# Altium integrated library Analog Devices Data Converters Digital-to-Analog Converters.IntLib: 2231 symbols (part 89 of 181)
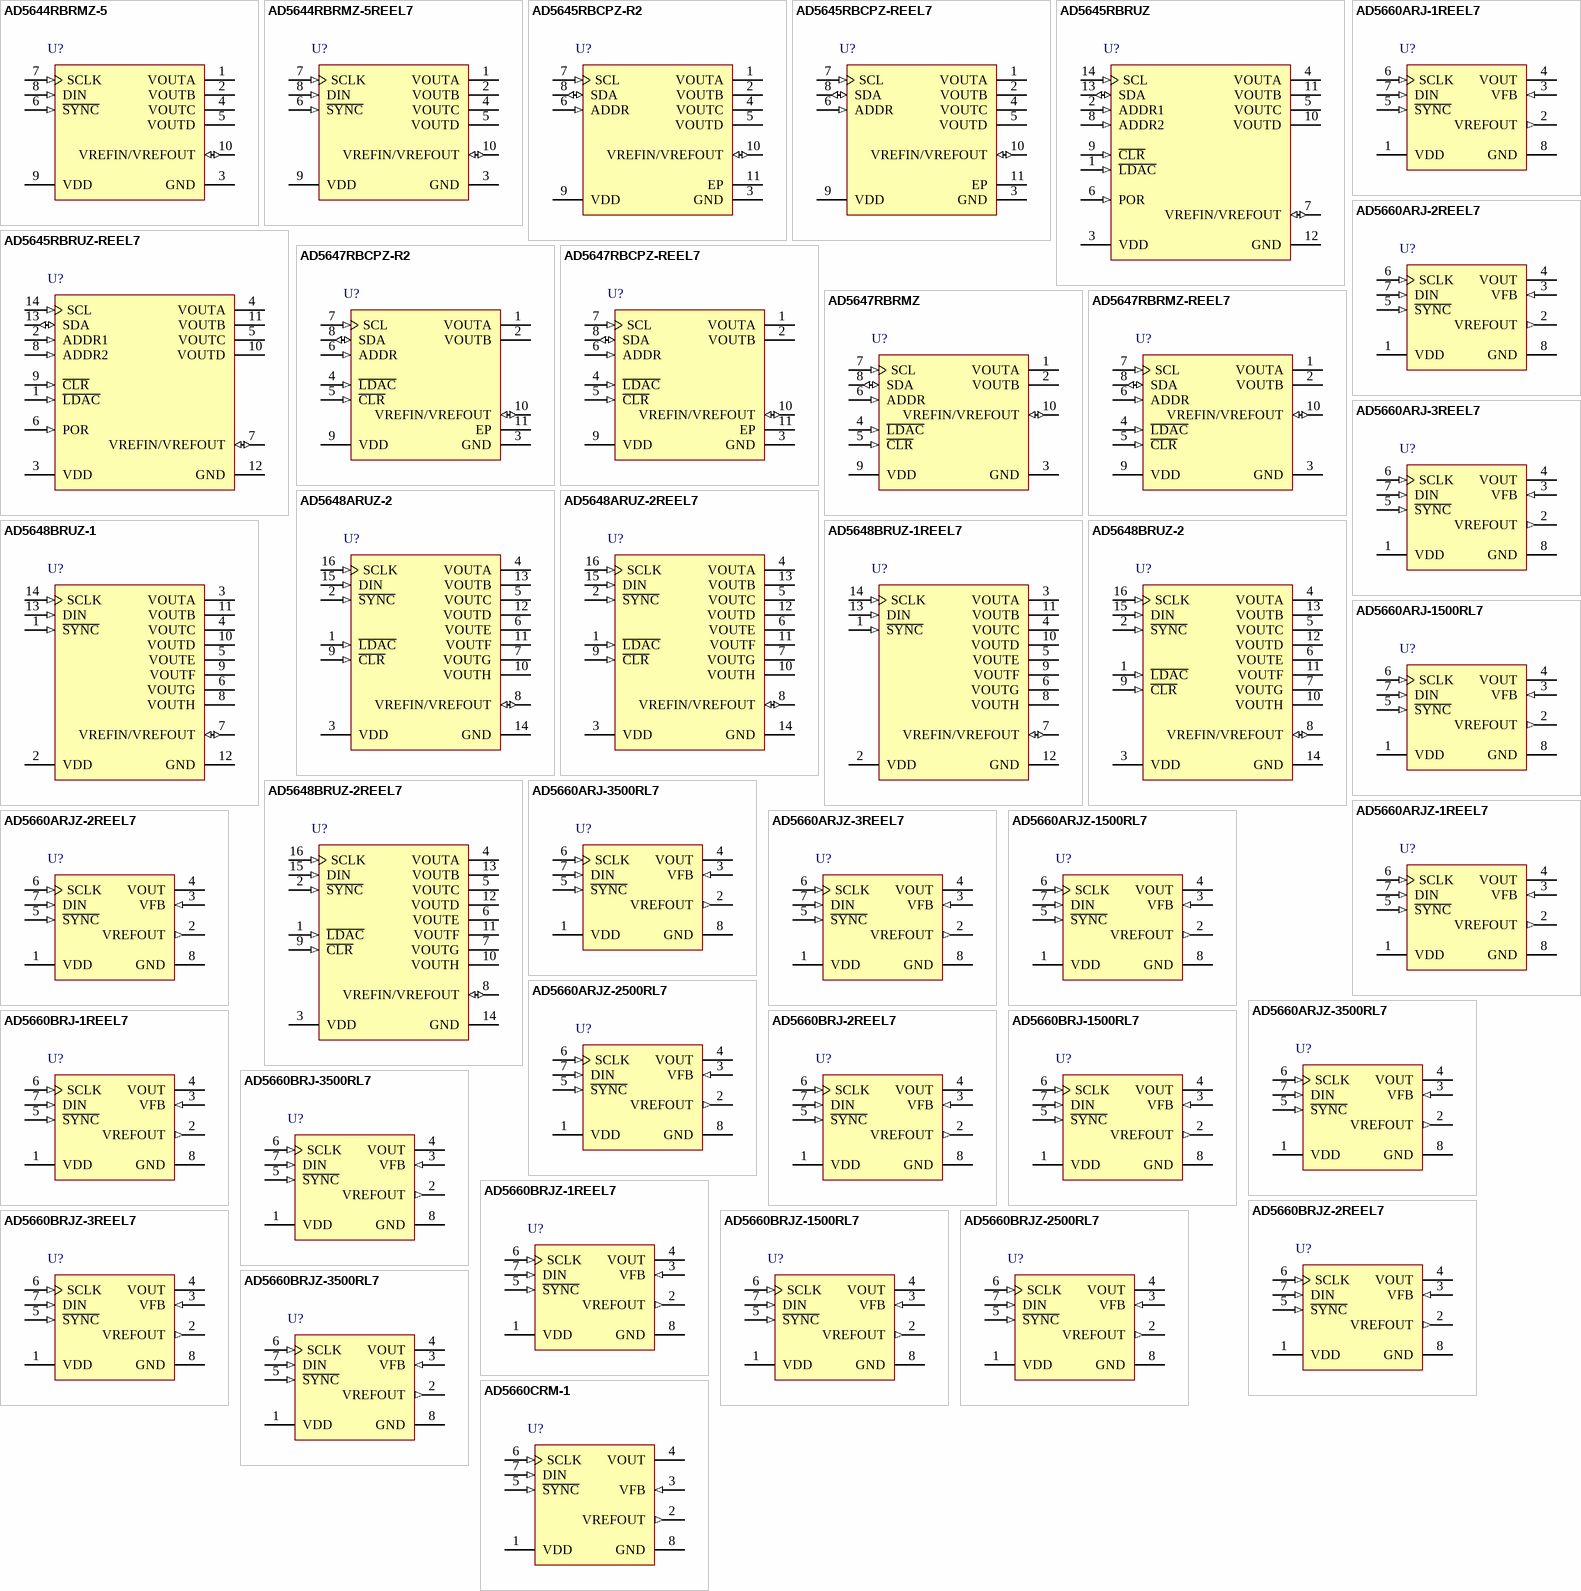
[diagram p202: symbols AD5644RBRMZ-5 to AD5660CRM-1]

## AD5660ARJZ-3500RL7
designator U?
Single 16-Bit nanoDAC with 5 ppm/degC On-Chip Reference, -40 to +105 degC, RJ-8, Pb-Free, Reel; Generic Part Number: AD5660; Manufacturer: Analog Devices; PartNumber: AD5660ARJZ-3500RL7; # DAC Outputs: 1; Max V+: 5.5V; Op Pwr Diss: 5mW; Resolution (Bits): 16; Settling Time: 8µs; Single Supply: Yes; DatasheetVersion: Rev.F; PackageVersion: 121608-A; PackageReference: RJ-8; PackageDescription: 8-Lead Thin Small Outline Transistor Package [SOT-23]; Supplier 1: Digi-Key; Supplier Part Number 1: AD5660ARJZ-3500RL7TR-ND; Supplier 2: Digi-Key; Supplier Part Number 2: AD5660ARJZ-3500RL7CT-ND; Supplier 3: Digi-Key; Supplier Part Number 3: AD5660ARJZ-3500RL7DKR-ND; Supplier 4: Farnell; Supplier Part Number 4: 2094212; Supplier 5: Newark; Supplier Part Number 5: 46M5258; Supplier 6: Newark; Supplier Part Number 6: 92T3219; Supplier 7: Mouser; Supplier Part Number 7: 584-AD5660ARJZ3500R7; Packing: Reel; RoHS: Y; Mounting Technology: Surface Mount; Code_JEDEC: MO-178-BA; ComponentLink1Description: Manufacturer URL; ComponentLink1URL: http://www.analog.com/en/index.html; ComponentLink2Description: Datasheet; ComponentLink2URL: http://www.analog.com/static/imported-files/data_sheets/AD5620_5640_5660.pdf; ComponentLink3Description: Package Specification; ComponentLink3URL: http://www.analog.com/static/imported-files/packages/PKG_PDF/SOT-23(RJ)/RJ_8.pdf; ComponentLink4Description: Product URL; ComponentLink4URL: http://www.analog.com/en/digital-to-analog-converters/da-converters/ad5660/products/product.html
footprint RJ-8_N (SOP, 8-Leads, Body 2.9x1.6mm, Pitch 0.65mm, IPC Medium Density)
footprint RJ-8_L (SOP, 8-Leads, Body 2.9x1.6mm, Pitch 0.65mm, IPC High Density)
footprint RJ-8_M (SOP, 8-Leads, Body 2.9x1.6mm, Pitch 0.65mm, IPC Low Density)
pins: 1 VDD (power) "Power Supply Input. These parts can operate from 2.7 V to 5.5 V. VDD should be decoupled to GND.", 2 VREFOUT (out) "Reference Voltage Output.", 3 VFB (in) "Feedback Connection for the Output Amplifier. VFB should be connected to VOUT for normal operation.", 4 VOUT (hiz) "Analog Output Voltage from DAC. The output amplifier has rail-to-rail operation.", 5 ~{SYNC} (in) "Level-Triggered Control Input (Active Low). This is the frame synchronization signal for the input data. When S\Y\N\C\ goes low, it enables the input shift register and data is transferred in on the falling edges of the (See Datasheet)", 6 SCLK (in) "Serial Clock Input. Data is clocked into the input shift register on the falling edge of the serial clock input. Data can be transferred at rates up to 30 MHz.", 7 DIN (in) "Serial Data Input. The AD5660 has a 24-bit shift register, Data is clocked into the register on the falling edge of the serial clock input.", 8 GND (power) "Ground Reference Point for all Circuitry on the Part."

## AD5660BRJ-1REEL7
designator U?
Single 16-Bit nanoDAC with 5 ppm/degC On-Chip Reference, -40 to +105 degC, RJ-8, Reel; Generic Part Number: AD5660; Manufacturer: Analog Devices; PartNumber: AD5660BRJ-1REEL7; # DAC Outputs: 1; Max V+: 5.5V; Op Pwr Diss: 5mW; Resolution (Bits): 16; Settling Time: 8µs; Single Supply: Yes; DatasheetVersion: Rev.F; PackageVersion: 121608-A; PackageReference: RJ-8; PackageDescription: 8-Lead Thin Small Outline Transistor Package [SOT-23]; Supplier 1: Digi-Key; Supplier Part Number 1: AD5660BRJ-1REEL7TR-ND; Supplier 2: Digi-Key; Supplier Part Number 2: AD5660BRJ-1REEL7CT-ND; Supplier 3: Digi-Key; Supplier Part Number 3: AD5660BRJ-1REEL7DKR-ND; Supplier 4: Mouser; Supplier Part Number 4: 584-AD5660BRJ-1R7; Packing: Reel; RoHS: N; Mounting Technology: Surface Mount; Code_JEDEC: MO-178-BA; ComponentLink1Description: Manufacturer URL; ComponentLink1URL: http://www.analog.com/en/index.html; ComponentLink2Description: Datasheet; ComponentLink2URL: http://www.analog.com/static/imported-files/data_sheets/AD5620_5640_5660.pdf; ComponentLink3Description: Package Specification; ComponentLink3URL: http://www.analog.com/static/imported-files/packages/PKG_PDF/SOT-23(RJ)/RJ_8.pdf; ComponentLink4Description: Product URL; ComponentLink4URL: http://www.analog.com/en/digital-to-analog-converters/da-converters/ad5660/products/product.html
footprint RJ-8_N (SOP, 8-Leads, Body 2.9x1.6mm, Pitch 0.65mm, IPC Medium Density)
footprint RJ-8_L (SOP, 8-Leads, Body 2.9x1.6mm, Pitch 0.65mm, IPC High Density)
footprint RJ-8_M (SOP, 8-Leads, Body 2.9x1.6mm, Pitch 0.65mm, IPC Low Density)
pins: 1 VDD (power) "Power Supply Input. These parts can operate from 2.7 V to 5.5 V. VDD should be decoupled to GND.", 2 VREFOUT (out) "Reference Voltage Output.", 3 VFB (in) "Feedback Connection for the Output Amplifier. VFB should be connected to VOUT for normal operation.", 4 VOUT (hiz) "Analog Output Voltage from DAC. The output amplifier has rail-to-rail operation.", 5 ~{SYNC} (in) "Level-Triggered Control Input (Active Low). This is the frame synchronization signal for the input data. When S\Y\N\C\ goes low, it enables the input shift register and data is transferred in on the falling edges of the (See Datasheet)", 6 SCLK (in) "Serial Clock Input. Data is clocked into the input shift register on the falling edge of the serial clock input. Data can be transferred at rates up to 30 MHz.", 7 DIN (in) "Serial Data Input. The AD5660 has a 24-bit shift register, Data is clocked into the register on the falling edge of the serial clock input.", 8 GND (power) "Ground Reference Point for all Circuitry on the Part."

## AD5660BRJ-2REEL7
designator U?
Single 16-Bit nanoDAC with 5 ppm/degC On-Chip Reference, -40 to +105 degC, RJ-8, Reel; Generic Part Number: AD5660; Manufacturer: Analog Devices; PartNumber: AD5660BRJ-2REEL7; # DAC Outputs: 1; Max V+: 5.5V; Op Pwr Diss: 5mW; Resolution (Bits): 16; Settling Time: 8µs; Single Supply: Yes; DatasheetVersion: Rev.F; PackageVersion: 121608-A; PackageReference: RJ-8; PackageDescription: 8-Lead Thin Small Outline Transistor Package [SOT-23]; Supplier 1: Digi-Key; Supplier Part Number 1: AD5660BRJ-2REEL7-ND; Supplier 2: Mouser; Supplier Part Number 2: N/A; Packing: Reel; RoHS: N; Mounting Technology: Surface Mount; Code_JEDEC: MO-178-BA; ComponentLink1Description: Manufacturer URL; ComponentLink1URL: http://www.analog.com/en/index.html; ComponentLink2Description: Datasheet; ComponentLink2URL: http://www.analog.com/static/imported-files/data_sheets/AD5620_5640_5660.pdf; ComponentLink3Description: Package Specification; ComponentLink3URL: http://www.analog.com/static/imported-files/packages/PKG_PDF/SOT-23(RJ)/RJ_8.pdf; ComponentLink4Description: Product URL; ComponentLink4URL: http://www.analog.com/en/digital-to-analog-converters/da-converters/ad5660/products/product.html
footprint RJ-8_N (SOP, 8-Leads, Body 2.9x1.6mm, Pitch 0.65mm, IPC Medium Density)
footprint RJ-8_L (SOP, 8-Leads, Body 2.9x1.6mm, Pitch 0.65mm, IPC High Density)
footprint RJ-8_M (SOP, 8-Leads, Body 2.9x1.6mm, Pitch 0.65mm, IPC Low Density)
pins: 1 VDD (power) "Power Supply Input. These parts can operate from 2.7 V to 5.5 V. VDD should be decoupled to GND.", 2 VREFOUT (out) "Reference Voltage Output.", 3 VFB (in) "Feedback Connection for the Output Amplifier. VFB should be connected to VOUT for normal operation.", 4 VOUT (hiz) "Analog Output Voltage from DAC. The output amplifier has rail-to-rail operation.", 5 ~{SYNC} (in) "Level-Triggered Control Input (Active Low). This is the frame synchronization signal for the input data. When S\Y\N\C\ goes low, it enables the input shift register and data is transferred in on the falling edges of the (See Datasheet)", 6 SCLK (in) "Serial Clock Input. Data is clocked into the input shift register on the falling edge of the serial clock input. Data can be transferred at rates up to 30 MHz.", 7 DIN (in) "Serial Data Input. The AD5660 has a 24-bit shift register, Data is clocked into the register on the falling edge of the serial clock input.", 8 GND (power) "Ground Reference Point for all Circuitry on the Part."

## AD5660BRJ-1500RL7
designator U?
Single 16-Bit nanoDAC with 5 ppm/degC On-Chip Reference, -40 to +105 degC, RJ-8, Reel; Generic Part Number: AD5660; Manufacturer: Analog Devices; PartNumber: AD5660BRJ-1500RL7; # DAC Outputs: 1; Max V+: 5.5V; Op Pwr Diss: 5mW; Resolution (Bits): 16; Settling Time: 8µs; Single Supply: Yes; DatasheetVersion: Rev.F; PackageVersion: 121608-A; PackageReference: RJ-8; PackageDescription: 8-Lead Thin Small Outline Transistor Package [SOT-23]; Supplier 1: Digi-Key; Supplier Part Number 1: AD5660BRJ-1500RL7TR-ND; Supplier 2: Digi-Key; Supplier Part Number 2: AD5660BRJ-1500RL7CT-ND; Supplier 3: Digi-Key; Supplier Part Number 3: AD5660BRJ-1500RL7DKR-ND; Supplier 4: Mouser; Supplier Part Number 4: 584-AD5660BRJ-1500R7; Packing: Reel; RoHS: N; Mounting Technology: Surface Mount; Code_JEDEC: MO-178-BA; ComponentLink1Description: Manufacturer URL; ComponentLink1URL: http://www.analog.com/en/index.html; ComponentLink2Description: Datasheet; ComponentLink2URL: http://www.analog.com/static/imported-files/data_sheets/AD5620_5640_5660.pdf; ComponentLink3Description: Package Specification; ComponentLink3URL: http://www.analog.com/static/imported-files/packages/PKG_PDF/SOT-23(RJ)/RJ_8.pdf; ComponentLink4Description: Product URL; ComponentLink4URL: http://www.analog.com/en/digital-to-analog-converters/da-converters/ad5660/products/product.html
footprint RJ-8_N (SOP, 8-Leads, Body 2.9x1.6mm, Pitch 0.65mm, IPC Medium Density)
footprint RJ-8_L (SOP, 8-Leads, Body 2.9x1.6mm, Pitch 0.65mm, IPC High Density)
footprint RJ-8_M (SOP, 8-Leads, Body 2.9x1.6mm, Pitch 0.65mm, IPC Low Density)
pins: 1 VDD (power) "Power Supply Input. These parts can operate from 2.7 V to 5.5 V. VDD should be decoupled to GND.", 2 VREFOUT (out) "Reference Voltage Output.", 3 VFB (in) "Feedback Connection for the Output Amplifier. VFB should be connected to VOUT for normal operation.", 4 VOUT (hiz) "Analog Output Voltage from DAC. The output amplifier has rail-to-rail operation.", 5 ~{SYNC} (in) "Level-Triggered Control Input (Active Low). This is the frame synchronization signal for the input data. When S\Y\N\C\ goes low, it enables the input shift register and data is transferred in on the falling edges of the (See Datasheet)", 6 SCLK (in) "Serial Clock Input. Data is clocked into the input shift register on the falling edge of the serial clock input. Data can be transferred at rates up to 30 MHz.", 7 DIN (in) "Serial Data Input. The AD5660 has a 24-bit shift register, Data is clocked into the register on the falling edge of the serial clock input.", 8 GND (power) "Ground Reference Point for all Circuitry on the Part."

## AD5660BRJ-3500RL7
designator U?
Single 16-Bit nanoDAC with 5 ppm/degC On-Chip Reference, -40 to +105 degC, RJ-8, Reel; Generic Part Number: AD5660; Manufacturer: Analog Devices; PartNumber: AD5660BRJ-3500RL7; # DAC Outputs: 1; Max V+: 5.5V; Op Pwr Diss: 5mW; Resolution (Bits): 16; Settling Time: 8µs; Single Supply: Yes; DatasheetVersion: Rev.F; PackageVersion: 121608-A; PackageReference: RJ-8; PackageDescription: 8-Lead Thin Small Outline Transistor Package [SOT-23]; Supplier 1: Digi-Key; Supplier Part Number 1: AD5660BRJ-3500RL7TR-ND; Supplier 2: Digi-Key; Supplier Part Number 2: AD5660BRJ-3500RL7CT-ND; Supplier 3: Digi-Key; Supplier Part Number 3: AD5660BRJ-3500RL7DKR-ND; Supplier 4: Newark; Supplier Part Number 4: 12M8625; Supplier 5: Mouser; Supplier Part Number 5: 584-AD5660BRJ-3500R7; Packing: Reel; RoHS: N; Mounting Technology: Surface Mount; Code_JEDEC: MO-178-BA; ComponentLink1Description: Manufacturer URL; ComponentLink1URL: http://www.analog.com/en/index.html; ComponentLink2Description: Datasheet; ComponentLink2URL: http://www.analog.com/static/imported-files/data_sheets/AD5620_5640_5660.pdf; ComponentLink3Description: Package Specification; ComponentLink3URL: http://www.analog.com/static/imported-files/packages/PKG_PDF/SOT-23(RJ)/RJ_8.pdf; ComponentLink4Description: Product URL; ComponentLink4URL: http://www.analog.com/en/digital-to-analog-converters/da-converters/ad5660/products/product.html
footprint RJ-8_N (SOP, 8-Leads, Body 2.9x1.6mm, Pitch 0.65mm, IPC Medium Density)
footprint RJ-8_L (SOP, 8-Leads, Body 2.9x1.6mm, Pitch 0.65mm, IPC High Density)
footprint RJ-8_M (SOP, 8-Leads, Body 2.9x1.6mm, Pitch 0.65mm, IPC Low Density)
pins: 1 VDD (power) "Power Supply Input. These parts can operate from 2.7 V to 5.5 V. VDD should be decoupled to GND.", 2 VREFOUT (out) "Reference Voltage Output.", 3 VFB (in) "Feedback Connection for the Output Amplifier. VFB should be connected to VOUT for normal operation.", 4 VOUT (hiz) "Analog Output Voltage from DAC. The output amplifier has rail-to-rail operation.", 5 ~{SYNC} (in) "Level-Triggered Control Input (Active Low). This is the frame synchronization signal for the input data. When S\Y\N\C\ goes low, it enables the input shift register and data is transferred in on the falling edges of the (See Datasheet)", 6 SCLK (in) "Serial Clock Input. Data is clocked into the input shift register on the falling edge of the serial clock input. Data can be transferred at rates up to 30 MHz.", 7 DIN (in) "Serial Data Input. The AD5660 has a 24-bit shift register, Data is clocked into the register on the falling edge of the serial clock input.", 8 GND (power) "Ground Reference Point for all Circuitry on the Part."

## AD5660BRJZ-1REEL7
designator U?
Single 16-Bit nanoDAC with 5 ppm/degC On-Chip Reference, -40 to +105 degC, RJ-8, Pb-Free, Reel; Generic Part Number: AD5660; Manufacturer: Analog Devices; PartNumber: AD5660BRJZ-1REEL7; # DAC Outputs: 1; Max V+: 5.5V; Op Pwr Diss: 5mW; Resolution (Bits): 16; Settling Time: 8µs; Single Supply: Yes; DatasheetVersion: Rev.F; PackageVersion: 121608-A; PackageReference: RJ-8; PackageDescription: 8-Lead Thin Small Outline Transistor Package [SOT-23]; Supplier 1: Digi-Key; Supplier Part Number 1: AD5660BRJZ-1REEL7TR-ND; Supplier 2: Digi-Key; Supplier Part Number 2: AD5660BRJZ-1REEL7CT-ND; Supplier 3: Digi-Key; Supplier Part Number 3: AD5660BRJZ-1REEL7DKR-ND; Supplier 4: Mouser; Supplier Part Number 4: 584-AD5660BRJZ-1R7; Packing: Reel; RoHS: Y; Mounting Technology: Surface Mount; Code_JEDEC: MO-178-BA; ComponentLink1Description: Manufacturer URL; ComponentLink1URL: http://www.analog.com/en/index.html; ComponentLink2Description: Datasheet; ComponentLink2URL: http://www.analog.com/static/imported-files/data_sheets/AD5620_5640_5660.pdf; ComponentLink3Description: Package Specification; ComponentLink3URL: http://www.analog.com/static/imported-files/packages/PKG_PDF/SOT-23(RJ)/RJ_8.pdf; ComponentLink4Description: Product URL; ComponentLink4URL: http://www.analog.com/en/digital-to-analog-converters/da-converters/ad5660/products/product.html
footprint RJ-8_N (SOP, 8-Leads, Body 2.9x1.6mm, Pitch 0.65mm, IPC Medium Density)
footprint RJ-8_L (SOP, 8-Leads, Body 2.9x1.6mm, Pitch 0.65mm, IPC High Density)
footprint RJ-8_M (SOP, 8-Leads, Body 2.9x1.6mm, Pitch 0.65mm, IPC Low Density)
pins: 1 VDD (power) "Power Supply Input. These parts can operate from 2.7 V to 5.5 V. VDD should be decoupled to GND.", 2 VREFOUT (out) "Reference Voltage Output.", 3 VFB (in) "Feedback Connection for the Output Amplifier. VFB should be connected to VOUT for normal operation.", 4 VOUT (hiz) "Analog Output Voltage from DAC. The output amplifier has rail-to-rail operation.", 5 ~{SYNC} (in) "Level-Triggered Control Input (Active Low). This is the frame synchronization signal for the input data. When S\Y\N\C\ goes low, it enables the input shift register and data is transferred in on the falling edges of the (See Datasheet)", 6 SCLK (in) "Serial Clock Input. Data is clocked into the input shift register on the falling edge of the serial clock input. Data can be transferred at rates up to 30 MHz.", 7 DIN (in) "Serial Data Input. The AD5660 has a 24-bit shift register, Data is clocked into the register on the falling edge of the serial clock input.", 8 GND (power) "Ground Reference Point for all Circuitry on the Part."

## AD5660BRJZ-2REEL7
designator U?
Single 16-Bit nanoDAC with 5 ppm/degC On-Chip Reference, -40 to +105 degC, RJ-8, Pb-Free, Reel; Generic Part Number: AD5660; Manufacturer: Analog Devices; PartNumber: AD5660BRJZ-2REEL7; # DAC Outputs: 1; Max V+: 5.5V; Op Pwr Diss: 5mW; Resolution (Bits): 16; Settling Time: 8µs; Single Supply: Yes; DatasheetVersion: Rev.F; PackageVersion: 121608-A; PackageReference: RJ-8; PackageDescription: 8-Lead Thin Small Outline Transistor Package [SOT-23]; Supplier 1: Digi-Key; Supplier Part Number 1: AD5660BRJZ-2REEL7TR-ND; Supplier 2: Digi-Key; Supplier Part Number 2: AD5660BRJZ-2REEL7CT-ND; Supplier 3: Digi-Key; Supplier Part Number 3: AD5660BRJZ-2REEL7DKR-ND; Supplier 4: Mouser; Supplier Part Number 4: 584-AD5660BRJZ-2R7; Packing: Reel; RoHS: Y; Mounting Technology: Surface Mount; Code_JEDEC: MO-178-BA; ComponentLink1Description: Manufacturer URL; ComponentLink1URL: http://www.analog.com/en/index.html; ComponentLink2Description: Datasheet; ComponentLink2URL: http://www.analog.com/static/imported-files/data_sheets/AD5620_5640_5660.pdf; ComponentLink3Description: Package Specification; ComponentLink3URL: http://www.analog.com/static/imported-files/packages/PKG_PDF/SOT-23(RJ)/RJ_8.pdf; ComponentLink4Description: Product URL; ComponentLink4URL: http://www.analog.com/en/digital-to-analog-converters/da-converters/ad5660/products/product.html
footprint RJ-8_N (SOP, 8-Leads, Body 2.9x1.6mm, Pitch 0.65mm, IPC Medium Density)
footprint RJ-8_L (SOP, 8-Leads, Body 2.9x1.6mm, Pitch 0.65mm, IPC High Density)
footprint RJ-8_M (SOP, 8-Leads, Body 2.9x1.6mm, Pitch 0.65mm, IPC Low Density)
pins: 1 VDD (power) "Power Supply Input. These parts can operate from 2.7 V to 5.5 V. VDD should be decoupled to GND.", 2 VREFOUT (out) "Reference Voltage Output.", 3 VFB (in) "Feedback Connection for the Output Amplifier. VFB should be connected to VOUT for normal operation.", 4 VOUT (hiz) "Analog Output Voltage from DAC. The output amplifier has rail-to-rail operation.", 5 ~{SYNC} (in) "Level-Triggered Control Input (Active Low). This is the frame synchronization signal for the input data. When S\Y\N\C\ goes low, it enables the input shift register and data is transferred in on the falling edges of the (See Datasheet)", 6 SCLK (in) "Serial Clock Input. Data is clocked into the input shift register on the falling edge of the serial clock input. Data can be transferred at rates up to 30 MHz.", 7 DIN (in) "Serial Data Input. The AD5660 has a 24-bit shift register, Data is clocked into the register on the falling edge of the serial clock input.", 8 GND (power) "Ground Reference Point for all Circuitry on the Part."

## AD5660BRJZ-3REEL7
designator U?
Single 16-Bit nanoDAC with 5 ppm/degC On-Chip Reference, -40 to +105 degC, RJ-8, Pb-Free, Reel; Generic Part Number: AD5660; Manufacturer: Analog Devices; PartNumber: AD5660BRJZ-3REEL7; # DAC Outputs: 1; Max V+: 5.5V; Op Pwr Diss: 5mW; Resolution (Bits): 16; Settling Time: 8µs; Single Supply: Yes; DatasheetVersion: Rev.F; PackageVersion: 121608-A; PackageReference: RJ-8; PackageDescription: 8-Lead Thin Small Outline Transistor Package [SOT-23]; Supplier 1: Digi-Key; Supplier Part Number 1: AD5660BRJZ-3REEL7TR-ND; Supplier 2: Digi-Key; Supplier Part Number 2: AD5660BRJZ-3REEL7CT-ND; Supplier 3: Digi-Key; Supplier Part Number 3: AD5660BRJZ-3REEL7DKR-ND; Supplier 4: Mouser; Supplier Part Number 4: 584-AD5660BRJZ-3R7; Packing: Reel; RoHS: Y; Mounting Technology: Surface Mount; Code_JEDEC: MO-178-BA; ComponentLink1Description: Manufacturer URL; ComponentLink1URL: http://www.analog.com/en/index.html; ComponentLink2Description: Datasheet; ComponentLink2URL: http://www.analog.com/static/imported-files/data_sheets/AD5620_5640_5660.pdf; ComponentLink3Description: Package Specification; ComponentLink3URL: http://www.analog.com/static/imported-files/packages/PKG_PDF/SOT-23(RJ)/RJ_8.pdf; ComponentLink4Description: Product URL; ComponentLink4URL: http://www.analog.com/en/digital-to-analog-converters/da-converters/ad5660/products/product.html
footprint RJ-8_N (SOP, 8-Leads, Body 2.9x1.6mm, Pitch 0.65mm, IPC Medium Density)
footprint RJ-8_L (SOP, 8-Leads, Body 2.9x1.6mm, Pitch 0.65mm, IPC High Density)
footprint RJ-8_M (SOP, 8-Leads, Body 2.9x1.6mm, Pitch 0.65mm, IPC Low Density)
pins: 1 VDD (power) "Power Supply Input. These parts can operate from 2.7 V to 5.5 V. VDD should be decoupled to GND.", 2 VREFOUT (out) "Reference Voltage Output.", 3 VFB (in) "Feedback Connection for the Output Amplifier. VFB should be connected to VOUT for normal operation.", 4 VOUT (hiz) "Analog Output Voltage from DAC. The output amplifier has rail-to-rail operation.", 5 ~{SYNC} (in) "Level-Triggered Control Input (Active Low). This is the frame synchronization signal for the input data. When S\Y\N\C\ goes low, it enables the input shift register and data is transferred in on the falling edges of the (See Datasheet)", 6 SCLK (in) "Serial Clock Input. Data is clocked into the input shift register on the falling edge of the serial clock input. Data can be transferred at rates up to 30 MHz.", 7 DIN (in) "Serial Data Input. The AD5660 has a 24-bit shift register, Data is clocked into the register on the falling edge of the serial clock input.", 8 GND (power) "Ground Reference Point for all Circuitry on the Part."

## AD5660BRJZ-1500RL7
designator U?
Single 16-Bit nanoDAC with 5 ppm/degC On-Chip Reference, -40 to +105 degC, RJ-8, Pb-Free, Reel; Generic Part Number: AD5660; Manufacturer: Analog Devices; PartNumber: AD5660BRJZ-1500RL7; # DAC Outputs: 1; Max V+: 5.5V; Op Pwr Diss: 5mW; Resolution (Bits): 16; Settling Time: 8µs; Single Supply: Yes; DatasheetVersion: Rev.F; PackageVersion: 121608-A; PackageReference: RJ-8; PackageDescription: 8-Lead Thin Small Outline Transistor Package [SOT-23]; Supplier 1: Digi-Key; Supplier Part Number 1: AD5660BRJZ-1500RL7TR-ND; Supplier 2: Digi-Key; Supplier Part Number 2: AD5660BRJZ-1500RL7CT-ND; Supplier 3: Digi-Key; Supplier Part Number 3: AD5660BRJZ-1500RL7DKR-ND; Supplier 4: Farnell; Supplier Part Number 4: 2094205; Supplier 5: Newark; Supplier Part Number 5: 12M8627; Supplier 6: Mouser; Supplier Part Number 6: 584-AD5660BRJZ1500R7; Packing: Reel; RoHS: Y; Mounting Technology: Surface Mount; Code_JEDEC: MO-178-BA; ComponentLink1Description: Manufacturer URL; ComponentLink1URL: http://www.analog.com/en/index.html; ComponentLink2Description: Datasheet; ComponentLink2URL: http://www.analog.com/static/imported-files/data_sheets/AD5620_5640_5660.pdf; ComponentLink3Description: Package Specification; ComponentLink3URL: http://www.analog.com/static/imported-files/packages/PKG_PDF/SOT-23(RJ)/RJ_8.pdf; ComponentLink4Description: Product URL; ComponentLink4URL: http://www.analog.com/en/digital-to-analog-converters/da-converters/ad5660/products/product.html
footprint RJ-8_N (SOP, 8-Leads, Body 2.9x1.6mm, Pitch 0.65mm, IPC Medium Density)
footprint RJ-8_L (SOP, 8-Leads, Body 2.9x1.6mm, Pitch 0.65mm, IPC High Density)
footprint RJ-8_M (SOP, 8-Leads, Body 2.9x1.6mm, Pitch 0.65mm, IPC Low Density)
pins: 1 VDD (power) "Power Supply Input. These parts can operate from 2.7 V to 5.5 V. VDD should be decoupled to GND.", 2 VREFOUT (out) "Reference Voltage Output.", 3 VFB (in) "Feedback Connection for the Output Amplifier. VFB should be connected to VOUT for normal operation.", 4 VOUT (hiz) "Analog Output Voltage from DAC. The output amplifier has rail-to-rail operation.", 5 ~{SYNC} (in) "Level-Triggered Control Input (Active Low). This is the frame synchronization signal for the input data. When S\Y\N\C\ goes low, it enables the input shift register and data is transferred in on the falling edges of the (See Datasheet)", 6 SCLK (in) "Serial Clock Input. Data is clocked into the input shift register on the falling edge of the serial clock input. Data can be transferred at rates up to 30 MHz.", 7 DIN (in) "Serial Data Input. The AD5660 has a 24-bit shift register, Data is clocked into the register on the falling edge of the serial clock input.", 8 GND (power) "Ground Reference Point for all Circuitry on the Part."

## AD5660BRJZ-2500RL7
designator U?
Single 16-Bit nanoDAC with 5 ppm/degC On-Chip Reference, -40 to +105 degC, RJ-8, Pb-Free, Reel; Generic Part Number: AD5660; Manufacturer: Analog Devices; PartNumber: AD5660BRJZ-2500RL7; # DAC Outputs: 1; Max V+: 5.5V; Op Pwr Diss: 5mW; Resolution (Bits): 16; Settling Time: 8µs; Single Supply: Yes; DatasheetVersion: Rev.F; PackageVersion: 121608-A; PackageReference: RJ-8; PackageDescription: 8-Lead Thin Small Outline Transistor Package [SOT-23]; Supplier 1: Digi-Key; Supplier Part Number 1: AD5660BRJZ-2500RL7TR-ND; Supplier 2: Digi-Key; Supplier Part Number 2: AD5660BRJZ-2500RL7CT-ND; Supplier 3: Digi-Key; Supplier Part Number 3: AD5660BRJZ-2500RL7DKR-ND; Supplier 4: Farnell; Supplier Part Number 4: 2094209; Supplier 5: Newark; Supplier Part Number 5: 92T3220; Supplier 6: Newark; Supplier Part Number 6: 12M8629; Supplier 7: Mouser; Supplier Part Number 7: 584-AD5660BRJZ2500R7; Packing: Reel; RoHS: Y; Mounting Technology: Surface Mount; Code_JEDEC: MO-178-BA; ComponentLink1Description: Manufacturer URL; ComponentLink1URL: http://www.analog.com/en/index.html; ComponentLink2Description: Datasheet; ComponentLink2URL: http://www.analog.com/static/imported-files/data_sheets/AD5620_5640_5660.pdf; ComponentLink3Description: Package Specification; ComponentLink3URL: http://www.analog.com/static/imported-files/packages/PKG_PDF/SOT-23(RJ)/RJ_8.pdf; ComponentLink4Description: Product URL; ComponentLink4URL: http://www.analog.com/en/digital-to-analog-converters/da-converters/ad5660/products/product.html
footprint RJ-8_N (SOP, 8-Leads, Body 2.9x1.6mm, Pitch 0.65mm, IPC Medium Density)
footprint RJ-8_L (SOP, 8-Leads, Body 2.9x1.6mm, Pitch 0.65mm, IPC High Density)
footprint RJ-8_M (SOP, 8-Leads, Body 2.9x1.6mm, Pitch 0.65mm, IPC Low Density)
pins: 1 VDD (power) "Power Supply Input. These parts can operate from 2.7 V to 5.5 V. VDD should be decoupled to GND.", 2 VREFOUT (out) "Reference Voltage Output.", 3 VFB (in) "Feedback Connection for the Output Amplifier. VFB should be connected to VOUT for normal operation.", 4 VOUT (hiz) "Analog Output Voltage from DAC. The output amplifier has rail-to-rail operation.", 5 ~{SYNC} (in) "Level-Triggered Control Input (Active Low). This is the frame synchronization signal for the input data. When S\Y\N\C\ goes low, it enables the input shift register and data is transferred in on the falling edges of the (See Datasheet)", 6 SCLK (in) "Serial Clock Input. Data is clocked into the input shift register on the falling edge of the serial clock input. Data can be transferred at rates up to 30 MHz.", 7 DIN (in) "Serial Data Input. The AD5660 has a 24-bit shift register, Data is clocked into the register on the falling edge of the serial clock input.", 8 GND (power) "Ground Reference Point for all Circuitry on the Part."

## AD5660BRJZ-3500RL7
designator U?
Single 16-Bit nanoDAC with 5 ppm/degC On-Chip Reference, -40 to +105 degC, RJ-8, Pb-Free, Reel; Generic Part Number: AD5660; Manufacturer: Analog Devices; PartNumber: AD5660BRJZ-3500RL7; # DAC Outputs: 1; Max V+: 5.5V; Op Pwr Diss: 5mW; Resolution (Bits): 16; Settling Time: 8µs; Single Supply: Yes; DatasheetVersion: Rev.F; PackageVersion: 121608-A; PackageReference: RJ-8; PackageDescription: 8-Lead Thin Small Outline Transistor Package [SOT-23]; Supplier 1: Digi-Key; Supplier Part Number 1: AD5660BRJZ-3500RL7TR-ND; Supplier 2: Digi-Key; Supplier Part Number 2: AD5660BRJZ-3500RL7CT-ND; Supplier 3: Digi-Key; Supplier Part Number 3: AD5660BRJZ-3500RL7DKR-ND; Supplier 4: Farnell; Supplier Part Number 4: 2094210; Supplier 5: Newark; Supplier Part Number 5: 34M5006; Supplier 6: Newark; Supplier Part Number 6: 92T3221; Supplier 7: Mouser; Supplier Part Number 7: 584-AD5660BRJZ3500R7; Packing: Reel; RoHS: Y; Mounting Technology: Surface Mount; Code_JEDEC: MO-178-BA; ComponentLink1Description: Manufacturer URL; ComponentLink1URL: http://www.analog.com/en/index.html; ComponentLink2Description: Datasheet; ComponentLink2URL: http://www.analog.com/static/imported-files/data_sheets/AD5620_5640_5660.pdf; ComponentLink3Description: Package Specification; ComponentLink3URL: http://www.analog.com/static/imported-files/packages/PKG_PDF/SOT-23(RJ)/RJ_8.pdf; ComponentLink4Description: Product URL; ComponentLink4URL: http://www.analog.com/en/digital-to-analog-converters/da-converters/ad5660/products/product.html
footprint RJ-8_N (SOP, 8-Leads, Body 2.9x1.6mm, Pitch 0.65mm, IPC Medium Density)
footprint RJ-8_L (SOP, 8-Leads, Body 2.9x1.6mm, Pitch 0.65mm, IPC High Density)
footprint RJ-8_M (SOP, 8-Leads, Body 2.9x1.6mm, Pitch 0.65mm, IPC Low Density)
pins: 1 VDD (power) "Power Supply Input. These parts can operate from 2.7 V to 5.5 V. VDD should be decoupled to GND.", 2 VREFOUT (out) "Reference Voltage Output.", 3 VFB (in) "Feedback Connection for the Output Amplifier. VFB should be connected to VOUT for normal operation.", 4 VOUT (hiz) "Analog Output Voltage from DAC. The output amplifier has rail-to-rail operation.", 5 ~{SYNC} (in) "Level-Triggered Control Input (Active Low). This is the frame synchronization signal for the input data. When S\Y\N\C\ goes low, it enables the input shift register and data is transferred in on the falling edges of the (See Datasheet)", 6 SCLK (in) "Serial Clock Input. Data is clocked into the input shift register on the falling edge of the serial clock input. Data can be transferred at rates up to 30 MHz.", 7 DIN (in) "Serial Data Input. The AD5660 has a 24-bit shift register, Data is clocked into the register on the falling edge of the serial clock input.", 8 GND (power) "Ground Reference Point for all Circuitry on the Part."

## AD5660CRM-1
designator U?
Single 16-Bit nanoDAC with 5 ppm/degC On-Chip Reference, -40 to +105 degC, RM-8, Tube; Generic Part Number: AD5660; Manufacturer: Analog Devices; PartNumber: AD5660CRM-1; # DAC Outputs: 1; Max V+: 5.5V; Op Pwr Diss: 5mW; Resolution (Bits): 16; Settling Time: 8µs; Single Supply: Yes; DatasheetVersion: Rev.F; PackageVersion: Aug-2005; PackageReference: RM-8; PackageDescription: 8-Lead Mini Small Outline Package [MSOP]; Supplier 1: Digi-Key; Supplier Part Number 1: AD5660CRM-1-ND; Supplier 2: Mouser; Supplier Part Number 2: 584-AD5660CRM-1; Packing: Tube; RoHS: N; Mounting Technology: Surface Mount; Code_JEDEC: MO-187-AA; ComponentLink1Description: Manufacturer URL; ComponentLink1URL: http://www.analog.com/en/index.html; ComponentLink2Description: Datasheet; ComponentLink2URL: http://www.analog.com/static/imported-files/data_sheets/AD5620_5640_5660.pdf; ComponentLink3Description: Package Specification; ComponentLink3URL: http://www.analog.com/static/imported-files/packages/PKG_PDF/MSOP%28RM%29/RM_8.pdf; ComponentLink4Description: Product URL; ComponentLink4URL: http://www.analog.com/en/digital-to-analog-converters/da-converters/ad5660/products/product.html
footprint RM-8_N (TSOP, 8-Leads, Body 3x3mm, Pitch 0.65mm, IPC Medium Density)
footprint RM-8_L (TSOP, 8-Leads, Body 3x3mm, Pitch 0.65mm, IPC High Density)
footprint RM-8_M (TSOP, 8-Leads, Body 3x3mm, Pitch 0.65mm, IPC Low Density)
pins: 1 VDD (power) "Power Supply Input. These parts can operate from 2.7 V to 5.5 V. VDD should be decoupled to GND.", 2 VREFOUT (out) "Reference Voltage Output.", 3 VFB (in) "Feedback Connection for the Output Amplifier. VFB should be connected to VOUT for normal operation.", 4 VOUT (hiz) "Analog Output Voltage from DAC. The output amplifier has rail-to-rail operation.", 5 ~{SYNC} (in) "Level-Triggered Control Input (Active Low). This is the frame synchronization signal for the input data. When S\Y\N\C\ goes low, it enables the input shift register and data is transferred in on the falling edges of the (See Datasheet)", 6 SCLK (in) "Serial Clock Input. Data is clocked into the input shift register on the falling edge of the serial clock input. Data can be transferred at rates up to 30 MHz.", 7 DIN (in) "Serial Data Input. The AD5660 has a 24-bit shift register, and the AD5620/AD5640 have a 16-bit shift register.Data is clocked into the register on the falling edge of the serial clock input.", 8 GND (power) "Ground Reference Point for all Circuitry on the Part."

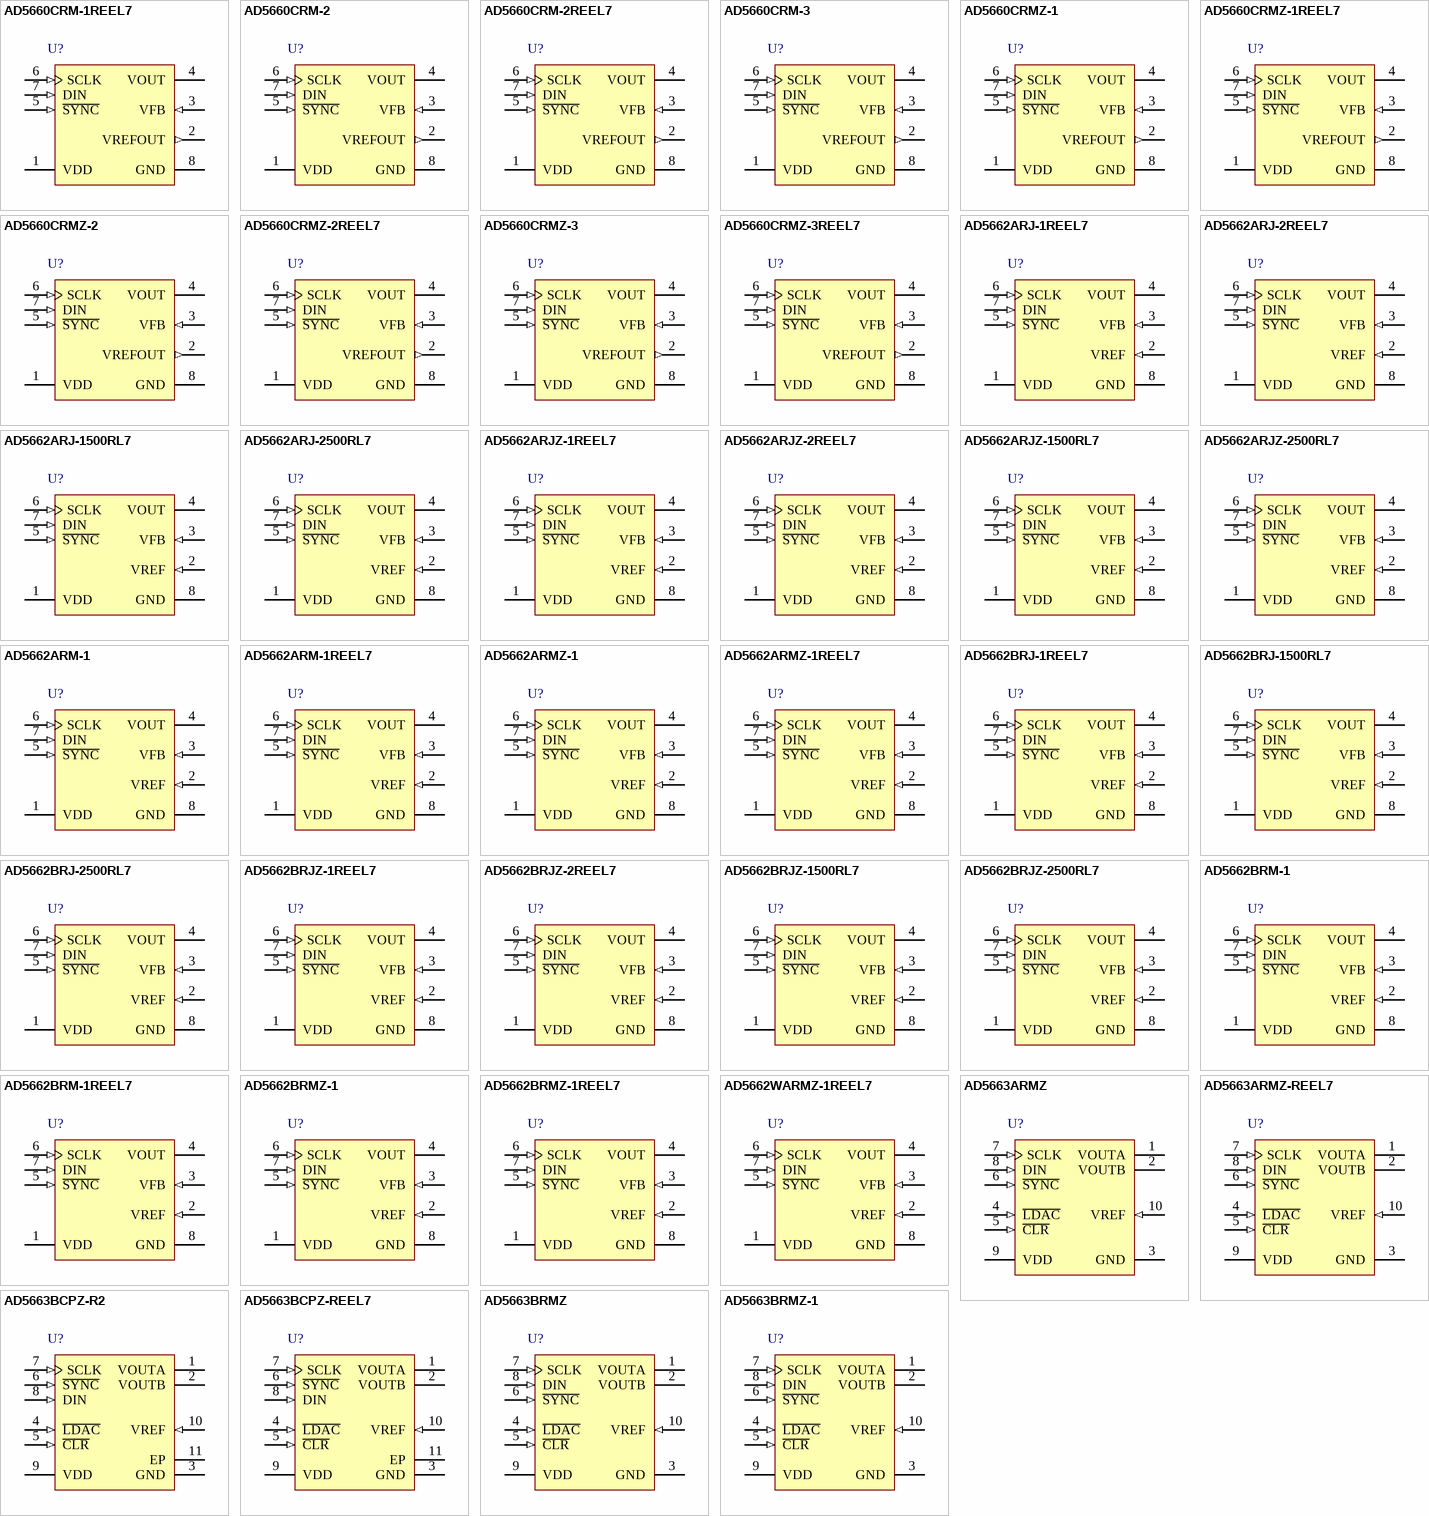
[diagram p48: symbols AD5660CRM-1REEL7 to AD5663BRMZ-1]

## AD5660CRM-1REEL7
designator U?
Single 16-Bit nanoDAC with 5 ppm/degC On-Chip Reference, -40 to +105 degC, RM-8, Reel; Generic Part Number: AD5660; Manufacturer: Analog Devices; PartNumber: AD5660CRM-1REEL7; # DAC Outputs: 1; Max V+: 5.5V; Op Pwr Diss: 5mW; Resolution (Bits): 16; Settling Time: 8µs; Single Supply: Yes; DatasheetVersion: Rev.F; PackageVersion: Aug-2005; PackageReference: RM-8; PackageDescription: 8-Lead Mini Small Outline Package [MSOP]; Supplier 1: Digi-Key; Supplier Part Number 1: AD5660CRM-1REEL7-ND; Supplier 2: Mouser; Supplier Part Number 2: 584-AD5660CRM-1R7; Packing: Reel; RoHS: N; Mounting Technology: Surface Mount; Code_JEDEC: MO-187-AA; ComponentLink1Description: Manufacturer URL; ComponentLink1URL: http://www.analog.com/en/index.html; ComponentLink2Description: Datasheet; ComponentLink2URL: http://www.analog.com/static/imported-files/data_sheets/AD5620_5640_5660.pdf; ComponentLink3Description: Package Specification; ComponentLink3URL: http://www.analog.com/static/imported-files/packages/PKG_PDF/MSOP%28RM%29/RM_8.pdf; ComponentLink4Description: Product URL; ComponentLink4URL: http://www.analog.com/en/digital-to-analog-converters/da-converters/ad5660/products/product.html
footprint RM-8_N (TSOP, 8-Leads, Body 3x3mm, Pitch 0.65mm, IPC Medium Density)
footprint RM-8_L (TSOP, 8-Leads, Body 3x3mm, Pitch 0.65mm, IPC High Density)
footprint RM-8_M (TSOP, 8-Leads, Body 3x3mm, Pitch 0.65mm, IPC Low Density)
pins: 1 VDD (power) "Power Supply Input. These parts can operate from 2.7 V to 5.5 V. VDD should be decoupled to GND.", 2 VREFOUT (out) "Reference Voltage Output.", 3 VFB (in) "Feedback Connection for the Output Amplifier. VFB should be connected to VOUT for normal operation.", 4 VOUT (hiz) "Analog Output Voltage from DAC. The output amplifier has rail-to-rail operation.", 5 ~{SYNC} (in) "Level-Triggered Control Input (Active Low). This is the frame synchronization signal for the input data. When S\Y\N\C\ goes low, it enables the input shift register and data is transferred in on the falling edges of the (See Datasheet)", 6 SCLK (in) "Serial Clock Input. Data is clocked into the input shift register on the falling edge of the serial clock input. Data can be transferred at rates up to 30 MHz.", 7 DIN (in) "Serial Data Input. The AD5660 has a 24-bit shift register, and the AD5620/AD5640 have a 16-bit shift register.Data is clocked into the register on the falling edge of the serial clock input.", 8 GND (power) "Ground Reference Point for all Circuitry on the Part."

## AD5660CRM-2
designator U?
Single 16-Bit nanoDAC with 5 ppm/degC On-Chip Reference, -40 to +105 degC, RM-8, Tube; Generic Part Number: AD5660; Manufacturer: Analog Devices; PartNumber: AD5660CRM-2; # DAC Outputs: 1; Max V+: 5.5V; Op Pwr Diss: 5mW; Resolution (Bits): 16; Settling Time: 8µs; Single Supply: Yes; DatasheetVersion: Rev.F; PackageVersion: Aug-2005; PackageReference: RM-8; PackageDescription: 8-Lead Mini Small Outline Package [MSOP]; Supplier 1: Digi-Key; Supplier Part Number 1: AD5660CRM-2-ND; Supplier 2: Mouser; Supplier Part Number 2: 584-AD5660CRM-2; Packing: Tube; RoHS: N; Mounting Technology: Surface Mount; Code_JEDEC: MO-187-AA; ComponentLink1Description: Manufacturer URL; ComponentLink1URL: http://www.analog.com/en/index.html; ComponentLink2Description: Datasheet; ComponentLink2URL: http://www.analog.com/static/imported-files/data_sheets/AD5620_5640_5660.pdf; ComponentLink3Description: Package Specification; ComponentLink3URL: http://www.analog.com/static/imported-files/packages/PKG_PDF/MSOP%28RM%29/RM_8.pdf; ComponentLink4Description: Product URL; ComponentLink4URL: http://www.analog.com/en/digital-to-analog-converters/da-converters/ad5660/products/product.html
footprint RM-8_N (TSOP, 8-Leads, Body 3x3mm, Pitch 0.65mm, IPC Medium Density)
footprint RM-8_L (TSOP, 8-Leads, Body 3x3mm, Pitch 0.65mm, IPC High Density)
footprint RM-8_M (TSOP, 8-Leads, Body 3x3mm, Pitch 0.65mm, IPC Low Density)
pins: 1 VDD (power) "Power Supply Input. These parts can operate from 2.7 V to 5.5 V. VDD should be decoupled to GND.", 2 VREFOUT (out) "Reference Voltage Output.", 3 VFB (in) "Feedback Connection for the Output Amplifier. VFB should be connected to VOUT for normal operation.", 4 VOUT (hiz) "Analog Output Voltage from DAC. The output amplifier has rail-to-rail operation.", 5 ~{SYNC} (in) "Level-Triggered Control Input (Active Low). This is the frame synchronization signal for the input data. When S\Y\N\C\ goes low, it enables the input shift register and data is transferred in on the falling edges of the (See Datasheet)", 6 SCLK (in) "Serial Clock Input. Data is clocked into the input shift register on the falling edge of the serial clock input. Data can be transferred at rates up to 30 MHz.", 7 DIN (in) "Serial Data Input. The AD5660 has a 24-bit shift register, and the AD5620/AD5640 have a 16-bit shift register.Data is clocked into the register on the falling edge of the serial clock input.", 8 GND (power) "Ground Reference Point for all Circuitry on the Part."

## AD5660CRM-2REEL7
designator U?
Single 16-Bit nanoDAC with 5 ppm/degC On-Chip Reference, -40 to +105 degC, RM-8, Reel; Generic Part Number: AD5660; Manufacturer: Analog Devices; PartNumber: AD5660CRM-2REEL7; # DAC Outputs: 1; Max V+: 5.5V; Op Pwr Diss: 5mW; Resolution (Bits): 16; Settling Time: 8µs; Single Supply: Yes; DatasheetVersion: Rev.F; PackageVersion: Aug-2005; PackageReference: RM-8; PackageDescription: 8-Lead Mini Small Outline Package [MSOP]; Supplier 1: Digi-Key; Supplier Part Number 1: AD5660CRM-2REEL7-ND; Supplier 2: Mouser; Supplier Part Number 2: 584-AD5660CRM-2R7; Packing: Reel; RoHS: N; Mounting Technology: Surface Mount; Code_JEDEC: MO-187-AA; ComponentLink1Description: Manufacturer URL; ComponentLink1URL: http://www.analog.com/en/index.html; ComponentLink2Description: Datasheet; ComponentLink2URL: http://www.analog.com/static/imported-files/data_sheets/AD5620_5640_5660.pdf; ComponentLink3Description: Package Specification; ComponentLink3URL: http://www.analog.com/static/imported-files/packages/PKG_PDF/MSOP%28RM%29/RM_8.pdf; ComponentLink4Description: Product URL; ComponentLink4URL: http://www.analog.com/en/digital-to-analog-converters/da-converters/ad5660/products/product.html
footprint RM-8_N (TSOP, 8-Leads, Body 3x3mm, Pitch 0.65mm, IPC Medium Density)
footprint RM-8_L (TSOP, 8-Leads, Body 3x3mm, Pitch 0.65mm, IPC High Density)
footprint RM-8_M (TSOP, 8-Leads, Body 3x3mm, Pitch 0.65mm, IPC Low Density)
pins: 1 VDD (power) "Power Supply Input. These parts can operate from 2.7 V to 5.5 V. VDD should be decoupled to GND.", 2 VREFOUT (out) "Reference Voltage Output.", 3 VFB (in) "Feedback Connection for the Output Amplifier. VFB should be connected to VOUT for normal operation.", 4 VOUT (hiz) "Analog Output Voltage from DAC. The output amplifier has rail-to-rail operation.", 5 ~{SYNC} (in) "Level-Triggered Control Input (Active Low). This is the frame synchronization signal for the input data. When S\Y\N\C\ goes low, it enables the input shift register and data is transferred in on the falling edges of the (See Datasheet)", 6 SCLK (in) "Serial Clock Input. Data is clocked into the input shift register on the falling edge of the serial clock input. Data can be transferred at rates up to 30 MHz.", 7 DIN (in) "Serial Data Input. The AD5660 has a 24-bit shift register, and the AD5620/AD5640 have a 16-bit shift register.Data is clocked into the register on the falling edge of the serial clock input.", 8 GND (power) "Ground Reference Point for all Circuitry on the Part."

## AD5660CRM-3
designator U?
Single 16-Bit nanoDAC with 5 ppm/degC On-Chip Reference, -40 to +105 degC, RM-8, Tube; Generic Part Number: AD5660; Manufacturer: Analog Devices; PartNumber: AD5660CRM-3; # DAC Outputs: 1; Max V+: 5.5V; Op Pwr Diss: 5mW; Resolution (Bits): 16; Settling Time: 8µs; Single Supply: Yes; DatasheetVersion: Rev.F; PackageVersion: Aug-2005; PackageReference: RM-8; PackageDescription: 8-Lead Mini Small Outline Package [MSOP]; Supplier 1: Digi-Key; Supplier Part Number 1: AD5660CRM-3-ND; Supplier 2: Newark; Supplier Part Number 2: 12M8634; Supplier 3: Mouser; Supplier Part Number 3: 584-AD5660CRM-3; Packing: Tube; RoHS: N; Mounting Technology: Surface Mount; Code_JEDEC: MO-187-AA; ComponentLink1Description: Manufacturer URL; ComponentLink1URL: http://www.analog.com/en/index.html; ComponentLink2Description: Datasheet; ComponentLink2URL: http://www.analog.com/static/imported-files/data_sheets/AD5620_5640_5660.pdf; ComponentLink3Description: Package Specification; ComponentLink3URL: http://www.analog.com/static/imported-files/packages/PKG_PDF/MSOP%28RM%29/RM_8.pdf; ComponentLink4Description: Product URL; ComponentLink4URL: http://www.analog.com/en/digital-to-analog-converters/da-converters/ad5660/products/product.html
footprint RM-8_N (TSOP, 8-Leads, Body 3x3mm, Pitch 0.65mm, IPC Medium Density)
footprint RM-8_L (TSOP, 8-Leads, Body 3x3mm, Pitch 0.65mm, IPC High Density)
footprint RM-8_M (TSOP, 8-Leads, Body 3x3mm, Pitch 0.65mm, IPC Low Density)
pins: 1 VDD (power) "Power Supply Input. These parts can operate from 2.7 V to 5.5 V. VDD should be decoupled to GND.", 2 VREFOUT (out) "Reference Voltage Output.", 3 VFB (in) "Feedback Connection for the Output Amplifier. VFB should be connected to VOUT for normal operation.", 4 VOUT (hiz) "Analog Output Voltage from DAC. The output amplifier has rail-to-rail operation.", 5 ~{SYNC} (in) "Level-Triggered Control Input (Active Low). This is the frame synchronization signal for the input data. When S\Y\N\C\ goes low, it enables the input shift register and data is transferred in on the falling edges of the (See Datasheet)", 6 SCLK (in) "Serial Clock Input. Data is clocked into the input shift register on the falling edge of the serial clock input. Data can be transferred at rates up to 30 MHz.", 7 DIN (in) "Serial Data Input. The AD5660 has a 24-bit shift register, and the AD5620/AD5640 have a 16-bit shift register.Data is clocked into the register on the falling edge of the serial clock input.", 8 GND (power) "Ground Reference Point for all Circuitry on the Part."

## AD5660CRMZ-1
designator U?
Single 16-Bit nanoDAC with 5 ppm/degC On-Chip Reference, -40 to +105 degC, RM-8, Pb-Free, Tube; Generic Part Number: AD5660; Manufacturer: Analog Devices; PartNumber: AD5660CRMZ-1; # DAC Outputs: 1; Max V+: 5.5V; Op Pwr Diss: 5mW; Resolution (Bits): 16; Settling Time: 8µs; Single Supply: Yes; DatasheetVersion: Rev.F; PackageVersion: Aug-2005; PackageReference: RM-8; PackageDescription: 8-Lead Mini Small Outline Package [MSOP]; Supplier 1: Digi-Key; Supplier Part Number 1: AD5660CRMZ-1-ND; Supplier 2: Farnell; Supplier Part Number 2: 2094203; Supplier 3: Newark; Supplier Part Number 3: 91R2582; Supplier 4: Mouser; Supplier Part Number 4: 584-AD5660CRMZ-1; Packing: Tube; RoHS: Y; Mounting Technology: Surface Mount; Code_JEDEC: MO-187-AA; ComponentLink1Description: Manufacturer URL; ComponentLink1URL: http://www.analog.com/en/index.html; ComponentLink2Description: Datasheet; ComponentLink2URL: http://www.analog.com/static/imported-files/data_sheets/AD5620_5640_5660.pdf; ComponentLink3Description: Package Specification; ComponentLink3URL: http://www.analog.com/static/imported-files/packages/PKG_PDF/MSOP%28RM%29/RM_8.pdf; ComponentLink4Description: Product URL; ComponentLink4URL: http://www.analog.com/en/digital-to-analog-converters/da-converters/ad5660/products/product.html
footprint RM-8_N (TSOP, 8-Leads, Body 3x3mm, Pitch 0.65mm, IPC Medium Density)
footprint RM-8_L (TSOP, 8-Leads, Body 3x3mm, Pitch 0.65mm, IPC High Density)
footprint RM-8_M (TSOP, 8-Leads, Body 3x3mm, Pitch 0.65mm, IPC Low Density)
pins: 1 VDD (power) "Power Supply Input. These parts can operate from 2.7 V to 5.5 V. VDD should be decoupled to GND.", 2 VREFOUT (out) "Reference Voltage Output.", 3 VFB (in) "Feedback Connection for the Output Amplifier. VFB should be connected to VOUT for normal operation.", 4 VOUT (hiz) "Analog Output Voltage from DAC. The output amplifier has rail-to-rail operation.", 5 ~{SYNC} (in) "Level-Triggered Control Input (Active Low). This is the frame synchronization signal for the input data. When S\Y\N\C\ goes low, it enables the input shift register and data is transferred in on the falling edges of the (See Datasheet)", 6 SCLK (in) "Serial Clock Input. Data is clocked into the input shift register on the falling edge of the serial clock input. Data can be transferred at rates up to 30 MHz.", 7 DIN (in) "Serial Data Input. The AD5660 has a 24-bit shift register, and the AD5620/AD5640 have a 16-bit shift register.Data is clocked into the register on the falling edge of the serial clock input.", 8 GND (power) "Ground Reference Point for all Circuitry on the Part."

## AD5660CRMZ-1REEL7
designator U?
Single 16-Bit nanoDAC with 5 ppm/degC On-Chip Reference, -40 to +105 degC, RM-8, Pb-Free, Reel; Generic Part Number: AD5660; Manufacturer: Analog Devices; PartNumber: AD5660CRMZ-1REEL7; # DAC Outputs: 1; Max V+: 5.5V; Op Pwr Diss: 5mW; Resolution (Bits): 16; Settling Time: 8µs; Single Supply: Yes; DatasheetVersion: Rev.F; PackageVersion: Aug-2005; PackageReference: RM-8; PackageDescription: 8-Lead Mini Small Outline Package [MSOP]; Supplier 1: Digi-Key; Supplier Part Number 1: AD5660CRMZ-1REEL7-ND; Supplier 2: Mouser; Supplier Part Number 2: 584-AD5660CRMZ-1R7; Packing: Reel; RoHS: Y; Mounting Technology: Surface Mount; Code_JEDEC: MO-187-AA; ComponentLink1Description: Manufacturer URL; ComponentLink1URL: http://www.analog.com/en/index.html; ComponentLink2Description: Datasheet; ComponentLink2URL: http://www.analog.com/static/imported-files/data_sheets/AD5620_5640_5660.pdf; ComponentLink3Description: Package Specification; ComponentLink3URL: http://www.analog.com/static/imported-files/packages/PKG_PDF/MSOP%28RM%29/RM_8.pdf; ComponentLink4Description: Product URL; ComponentLink4URL: http://www.analog.com/en/digital-to-analog-converters/da-converters/ad5660/products/product.html
footprint RM-8_N (TSOP, 8-Leads, Body 3x3mm, Pitch 0.65mm, IPC Medium Density)
footprint RM-8_L (TSOP, 8-Leads, Body 3x3mm, Pitch 0.65mm, IPC High Density)
footprint RM-8_M (TSOP, 8-Leads, Body 3x3mm, Pitch 0.65mm, IPC Low Density)
pins: 1 VDD (power) "Power Supply Input. These parts can operate from 2.7 V to 5.5 V. VDD should be decoupled to GND.", 2 VREFOUT (out) "Reference Voltage Output.", 3 VFB (in) "Feedback Connection for the Output Amplifier. VFB should be connected to VOUT for normal operation.", 4 VOUT (hiz) "Analog Output Voltage from DAC. The output amplifier has rail-to-rail operation.", 5 ~{SYNC} (in) "Level-Triggered Control Input (Active Low). This is the frame synchronization signal for the input data. When S\Y\N\C\ goes low, it enables the input shift register and data is transferred in on the falling edges of the (See Datasheet)", 6 SCLK (in) "Serial Clock Input. Data is clocked into the input shift register on the falling edge of the serial clock input. Data can be transferred at rates up to 30 MHz.", 7 DIN (in) "Serial Data Input. The AD5660 has a 24-bit shift register, and the AD5620/AD5640 have a 16-bit shift register.Data is clocked into the register on the falling edge of the serial clock input.", 8 GND (power) "Ground Reference Point for all Circuitry on the Part."